# EAGLE library part XIAO-RP2040 (library Seeed Studio XIAO Series)
Seeed Studio XIAO RP2040 v1.22 - Raspberry Pi RP2040 Microcontroller - 32-bit 133MHz Dual-Core ARM® Cortex® M0+processor Seeed SKU: 102010428 Seeed Studio XIAO RP2040 is a microcontroller using the Raspberry Pi RP2040 chip. The MCU runs at up to 133MHz. It is built with rich interfaces in a tiny thumb size and fully supports Arduino, MicroPython, and CircuitPython. The onboard interfaces are enough for developing multiple applications. Buy now <https://www.seeedstudio.com/XIAO-RP2040-v1-0-p-5026.html> Wiki <https://wiki.seeedstudio.com/XIAO-RP2040/>
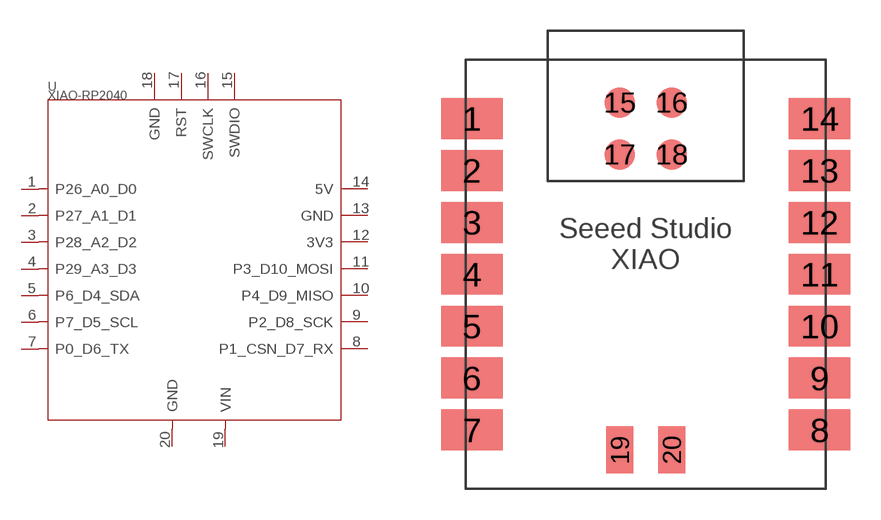
[diagram p0: symbol with the pads of XIAO-SAMD21/RP2040-MODULE14P-2.54-21X17.8MM; footprint XIAO-SAMD21/RP2040-MODULE14P-2.54-21X17.8MM]

Designator prefix U

## XIAO-RP2040  [XIAO-SAMD21/RP2040-MODULE14P-2.54-21X17.8MM]
1  P26_A0_D0
2  P27_A1_D1
3  P28_A2_D2
4  P29_A3_D3
5  P6_D4_SDA
6  P7_D5_SCL
7  P0_D6_TX
8  P1_CSN_D7_RX
9  P2_D8_SCK
10  P4_D9_MISO
11  P3_D10_MOSI
12  3V3
13  GND
14  5V
15  SWDIO
16  SWCLK
17  RST
18  GND
19  VIN
20  GND

## Footprint XIAO-SAMD21/RP2040-MODULE14P-2.54-21X17.8MM (pad centres in mm)
smd 3 x 2: 1 -8.5,7.62; 2 -8.5,5.08; 3 -8.5,2.54; 4 -8.5,0; 5 -8.5,-2.54; 6 -8.5,-5.08; 7 -8.5,-7.62; 8 8.5,-7.62; 9 8.5,-5.08; 10 8.5,-2.54; 11 8.5,0; 12 8.5,2.54; 13 8.5,5.08; 14 8.5,7.62
smd 1.5 x 1.5: 15 -1.27,8.39; 16 1.27,8.39; 17 -1.27,5.85; 18 1.27,5.85
smd 1.3 x 2.3: 19 -1.27,-8.6; 20 1.27,-8.6